# Altium footprint library MT-Sources.PcbLib: 36 footprints (part 2 of 3)
Each footprint in its own frame and in the unit in brackets; x right, y up, seen from the top. Pads: shape width x height; smd on the part's side, far side on the other; paste and mask are expansions set on the pad; w line width, h text height; cw(c..) or ccw(c..) is an arc to the next point about the centre after c.
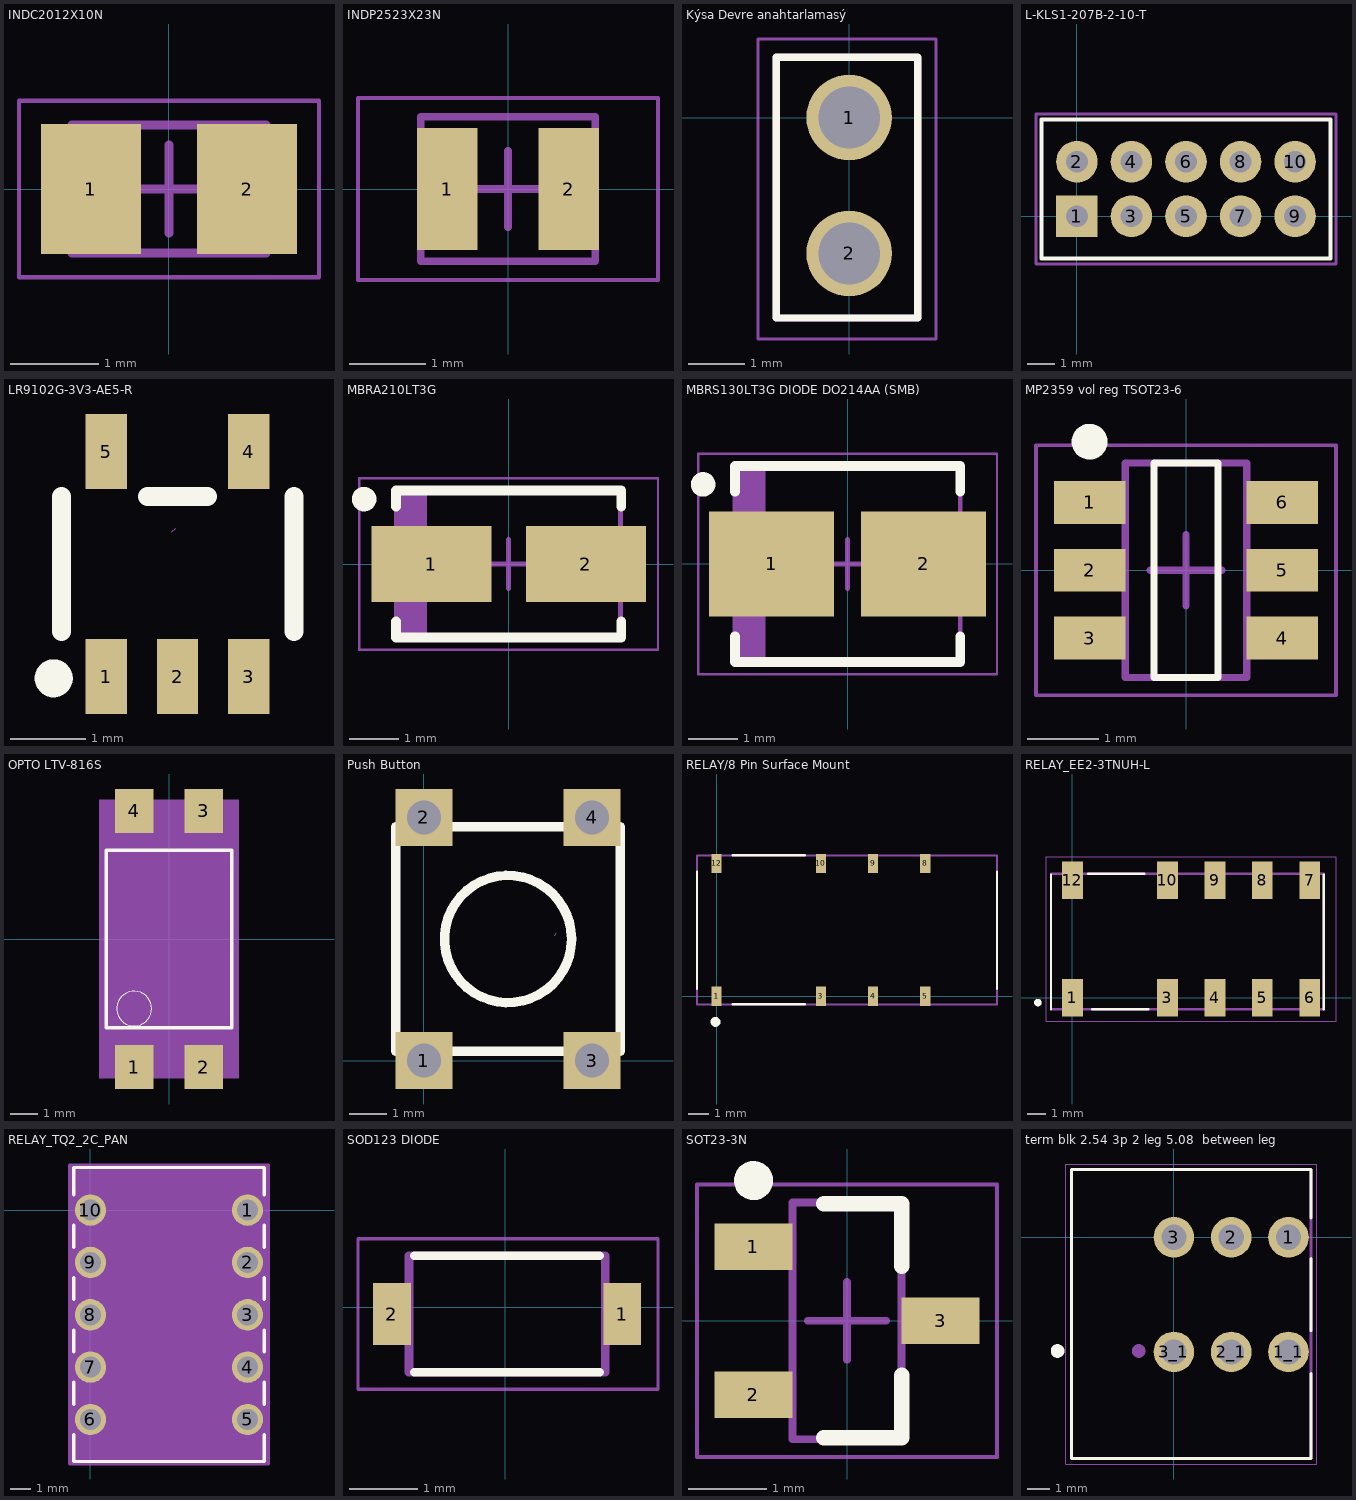
[diagram p1: the footprints below, top view; thin cyan lines are the x and y axes]

## INDC2012X10N [mm] "Chip Inductor, 2-Leads, Body 2,00x1,25mm, IPC Medium Density"
height 1
pads (2):
  rect 1.13x1.47 smd: 1(-0.885,0) 2(0.885,0)
Mechanical 13:
  lines w0.1: -1.1,-0.725 1.1,-0.725 1.1,0.725 -1.1,0.725 -1.1,-0.725
Mechanical 15:
  lines w0.05: -1.7,-1 1.7,-1 1.7,1 -1.7,1 -1.7,-1
  lines w0.1: -0.5,0 0.5,0 ; 0,-0.5 0,0.5
3D body: height 1, standoff 0, extent 0.6,-0.725 1.1,0.725
3D body: height 1, standoff 0, extent -1.1,-0.725 -0.6,0.725
3D body: height 1, standoff 0, extent -0.6,-0.725 0.6,0.725

## INDP2523X23N [mm] "TYA2016104R7M-10/Duzeltilebilir."
height 1.15
pads (2):
  rect 0.8x1.6 smd: 1(-0.8,0) 2(0.8,0)
Mechanical 13:
  lines w0.1: -1.15,-0.95 1.15,-0.95 1.15,0.95 -1.15,0.95 -1.15,-0.95
Mechanical 15:
  lines w0.05: -1.975,-1.2 1.975,-1.2 1.975,1.2 -1.975,1.2 -1.975,-1.2
  lines w0.1: -0.5,0 0.5,0 ; 0,-0.5 0,0.5
3D body: height 1.15, standoff 0, extent -1.15,-0.95 1.15,0.95

## Kýsa Devre anahtarlamasý [mil]
pads (2):
  round 60 hole 43.31: 1(0,0) 2(0,-95.47)
Top Overlay:
  lines w5: -51.18,-140.75 -51.18,42.32 48.23,42.32 48.23,-140.75 -51.18,-140.75
Mechanical 13:
  lines w5: -51.18,-140.75 -51.18,42.32 47.24,42.32 48.23,41.34 48.23,-140.75 -51.18,-140.75 ; -51.18,-140.75 -51.18,-140.75
Mechanical 15:
  lines w1.97: -63.98,-155.51 -63.98,55.12 61.02,55.12 61.02,-155.51 -63.98,-155.51

## L-KLS1-207B-2-10-T [mm] "Male Header 10-pin 2-row 2-mm/eksikler giderilecek"
pads (10):
  rect 1.524x1.524 hole 0.8: 1(0,0)
  round 1.524 hole 0.8: 2(0,2) 3(2,0) 4(2,2) 5(4,0) 6(4,2) 7(6,0) 8(6,2) 9(8,0) 10(8,2)
Top Overlay:
  lines w0.15: -1.302,-1.552 9.302,-1.552 9.302,3.552 -1.302,3.552 -1.302,-1.552
Mechanical 15:
  lines w0.1: -1.5,-1.75 9.5,-1.75 9.5,3.75 -1.5,3.75 -1.5,-1.75

## LR9102G-3V3-AE5-R [mm] "LR9102G-3V3-AE5-R - IC-LR9102 V.REG 3V3 SOT-23-5 TR UTC"
pads (5):
  rect 0.55x1 smd: 1(-306.371,159.655) 2(-305.421,159.655) 3(-304.471,159.655) 4(-304.471,162.655) 5(-306.371,162.655)
Top Overlay:
  circle w0.254: c-307.072,159.631 r0.127
  lines w0.254: -306.971,160.255 -306.971,162.055 ; -305.821,162.055 -305.021,162.055 ; -303.87,160.255 -303.87,162.055
Mechanical 15:
  lines w0.003: -305.496,161.583 -305.446,161.634

## MBRA210LT3G [mm] "DIODE SCHOTTKY 2A 10V SMA"
height 2.2
pads (2):
  rect 2.45x1.55 smd: 1(-1.575,0) 2(1.575,0)
Top Overlay:
  circle w0.25: c-2.95,1.325 r0.125
  lines w0.2: -2.3,-1.175 -2.3,-1.5 2.3,-1.5 2.3,-1.175 ; -2.3,1.175 -2.3,1.5 2.3,1.5 2.3,1.175
Mechanical 13:
  rectangle: -2.285,-1.46 -1.67,1.46
  lines w0.1: -2.285,-1.46 2.285,-1.46 2.285,1.46 -2.285,1.46 -2.285,-1.46
Mechanical 15:
  lines w0.05: -3.05,-1.75 3.05,-1.75 3.05,1.75 -3.05,1.75 -3.05,-1.75
  lines w0.1: -0.5,0 0.5,0 ; 0,-0.5 0,0.5
3D body: height 2.2, standoff 0, extent -2.285,-1.46 2.285,1.46

## MBRS130LT3G DIODE DO214AA (SMB) [mm] "DIODE SCHOTTKY 2A 30V SMB ON DO-214AA, SMB"
height 2.47
pads (2):
  rect 2.55x2.15 smd: 1(-1.55,0) 2(1.55,0)
Top Overlay:
  circle w0.25: c-2.95,1.625 r0.125
  lines w0.2: -2.3,-1.475 -2.3,-2 2.3,-2 2.3,-1.475 ; -2.3,1.475 -2.3,2 2.3,2 2.3,1.475
Mechanical 13:
  rectangle: -2.3,-1.975 -1.681,1.975
  lines w0.1: -2.3,-1.975 -2.3,1.975 2.3,1.975 2.3,-1.975 -2.3,-1.975
Mechanical 15:
  lines w0.05: -3.05,-2.25 -3.05,2.25 3.05,2.25 3.05,-2.25 -3.05,-2.25
  lines w0.1: -0.5,0 0.5,0 ; 0,-0.5 0,0.5
3D body: height 2.47, standoff 0, extent -2.3,-1.975 2.3,1.975

## MP2359 vol reg TSOT23-6 [mm] "SOT23, 6-Leads, Body 2,90x2,80mm, Pitch 0,95mm, IPC Medium Density"
height 1
pads (6):
  rect 1x0.6 smd: 1(-1.35,0.95) 2(-1.35,0) 3(-1.35,-0.95) 4(1.35,-0.95) 5(1.35,0) 6(1.35,0.95)
Top Overlay:
  circle w0.25: c-1.35,1.8 r0.125
  lines w0.1: -0.45,-1.5 -0.45,1.5 0.45,1.5 0.45,-1.5 -0.45,-1.5
Mechanical 13:
  lines w0.1: -0.85,-1.5 0.85,-1.5 0.85,1.5 -0.85,1.5 -0.85,-1.5
Mechanical 15:
  lines w0.05: -2.1,-1.75 2.1,-1.75 2.1,1.75 -2.1,1.75 -2.1,-1.75
  lines w0.1: -0.5,0 0.5,0 ; 0,-0.5 0,0.5
3D body: height 1, standoff 0, extent -0.85,-1.5 0.85,1.5

## OPTO LTV-816S [mm] "LTV-816S-TP-C - IC-816 OPTO SMD"
pads (4):
  rect 1.4x1.6 smd: 1(-1.27,-4.68) 2(1.27,-4.68) 3(1.27,4.68) 4(-1.27,4.68)
Top Overlay:
  circle w0: c-1.27,-2.54 r0.635
  lines w0.127: -2.3,-3.25 -2.3,3.25 2.3,3.25 2.3,-3.25 -2.3,-3.25
Mechanical 13:
  region: 1.87,-5.08 0.67,-5.08 0.67,-3.3 1.87,-3.3
  region: -0.67,-5.08 -1.87,-5.08 -1.87,-3.3 -0.67,-3.3
  region: 1.87,3.175 0.67,3.175 0.67,5.08 1.87,5.08
  region: -0.67,3.175 -1.87,3.175 -1.87,5.08 -0.67,5.08
Mechanical 15:
  region: 2.54,-5.083 -2.541,-5.083 -2.541,5.08 2.54,5.08

## Push Button [mil] "KLS7-TS6601"
pads (4):
  rect 60x60 hole 36: 1(0,0) 2(0,255.91) 3(177.17,0) 4(177.17,255.91)
Top Overlay:
  circle w10: c88.58,127.95 r66.93
  lines w10: -29.53,9.84 -29.53,246.06 206.69,246.06 206.69,9.84 -29.53,9.84
Mechanical 15:
  lines w0.1: 137.58,131.95 139.58,133.95

## RELAY/8 Pin Surface Mount [mm] "V23079G2016B301"
pads (8):
  rect 0.5x0.94 smd: 1(0,0) 3(5.08,0) 4(7.62,0) 5(10.16,0) 8(10.16,6.46) 9(7.62,6.46) 10(5.08,6.46) 12(0,6.46)
Top Overlay:
  circle w0.254: c-0.05,-1.25 r0.112
  lines w0.12: -0.95,0.35 -0.95,6.05 ; 0.8,-0.4 4.3,-0.4 ; 0.8,6.85 4.3,6.85 ; 13.65,0.35 13.65,6.05
Mechanical 13:
  lines w0.1: -0.95,-0.4 13.65,-0.4 13.65,6.85 -0.95,6.85 -0.95,-0.4

## RELAY_EE2-3TNUH-L [mm]
pads (10):
  rect 1.11x2 smd: 1(0,0) 3(5.08,0) 4(7.62,0) 5(10.16,0) 6(12.7,0) 7(12.7,6.29) 8(10.16,6.29) 9(7.62,6.29) 10(5.08,6.29) 12(0,6.29)
Top Overlay:
  circle w0.2: c-1.85,-0.255 r0.1
  lines w0.127: -1.15,-0.605 -1.15,6.595 ; 0.85,6.645 3.85,6.645 ; 1.05,-0.605 4.05,-0.605 ; 13.45,-0.605 13.45,6.595
Mechanical 13:
  circle w0.2: c-1.85,-0.255 r0.1
  lines w0.127: -1.15,6.595 -1.15,-0.605 13.45,-0.605 13.45,6.645 -1.15,6.645
Mechanical 15:
  lines w0.05: -1.4,-1.25 14.1,-1.25 14.1,7.54 -1.4,7.54 -1.4,-1.25

## RELAY_TQ2_2C_PAN [mil]
pads (10):
  round 60 hole 40 mask+0: 1(300,0) 2(300,-100) 3(300,-200) 4(300,-300) 5(300,-400) 6(0,-400) 7(0,-300) 8(0,-200) 9(0,-100) 10(0,0)
Top Overlay:
  lines w6: -32,-428.87 -32,-480 332,-480 332,-428.87 ; -32,-371.13 -32,-328.87 ; -32,-271.13 -32,-228.87 ; -32,-171.13 -32,-128.87 ; -32,-71.13 -32,-28.87 ; -32,28.87 -32,81 332,81 332,28.87 ; 332,-371.13 332,-328.87 ; 332,-271.13 332,-228.87 ; 332,-171.13 332,-128.87 ; 332,-71.13 332,-28.87
Mechanical 13:
  lines w0: 138,76 ccw(c150,76) 162,76
  lines w1: -27,-475 -27,76 327,76 327,-475 -27,-475
  text "*" at -12.5,16.67 h50
Mechanical 15:
  region: 327,-475 -27,-475 -27,76 327,76
  region: 340,-485 -40,-485 -40,86 340,86
  lines w6: -40,-485 340,-485 340,86 -40,86 -40,-485
3D body: height 10, standoff 0, extent 0,0 10,10

## SOD123 DIODE [mm]
pads (2):
  rect 0.55x0.9 smd: 1(1.705,-0.1) 2(-1.655,-0.1)
Top Overlay:
  lines w0.127: -1.325,-0.95 1.375,-0.95 ; -1.325,0.75 1.375,0.75
Mechanical 13:
  lines w0.127: -1.405,-0.95 -1.405,0.75 1.455,0.75 1.455,-0.95 -1.405,-0.95
Mechanical 15:
  lines w0.05: -2.15,-1.2 -2.15,1 2.225,1 2.225,-1.2 -2.15,-1.2

## SOT23-3N [mm] "SOT23, 3-Leads, Body 2,92x2,37mm, Pitch 0,95mm, IPC Medium Density"
height 1.11
pads (3):
  rect 1x0.6 smd: 1(-1.2,0.95) 2(-1.2,-0.95) 3(1.2,0)
Top Overlay:
  circle w0.25: c-1.2,1.8 r0.125
  lines w0.2: -0.3,-1.5 0.7,-1.5 0.7,-0.7 ; -0.3,1.5 0.7,1.5 0.7,0.7
Mechanical 13:
  lines w0.1: -0.7,-1.52 -0.7,1.52 0.7,1.52 0.7,-1.52 -0.7,-1.52
Mechanical 15:
  lines w0.05: -1.925,-1.75 -1.925,1.75 1.925,1.75 1.925,-1.75 -1.925,-1.75
  lines w0.1: -0.5,0 0.5,0 ; 0,-0.5 0,0.5
3D body: height 1.11, standoff 0.1, extent -0.7,-1.52 0.7,1.52

## term blk 2.54 3p 2 leg 5.08  between leg [mm]
pads (6):
  round 1.8 hole 1.12: 1(5.08,0) 1_1(5.08,-5.08) 2(2.54,0) 3(0,0) 3_1(0,-5.08)
  round 1.8 hole 1.12 paste+0: 2_1(2.54,-5.08)
Top Overlay:
  circle w0.4: c-5.16,-5.04 r0.1
  lines w0.127: 6.08,-6.04 6.08,-9.8 -4.54,-9.8 -4.54,3 6.08,3 6.08,0.86 ; 6.08,-4.14 6.08,-0.94
Mechanical 13:
  circle w0.4: c-1.56,-5.04 r0.1
  lines w0.127: -4.54,-9.8 6.08,-9.8 6.08,3 -4.54,3 -4.54,-9.8
Mechanical 15:
  lines w0.05: -4.79,-10.05 6.33,-10.05 6.33,3.25 -4.79,3.25 -4.79,-10.05